# EAGLE library part IR2136 (library okamoto)
IR2136 3-PHASE Motor Driver
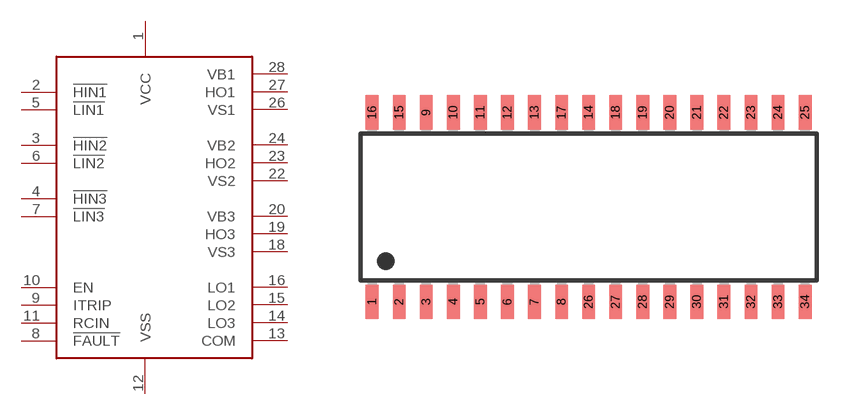
[diagram p3: symbol with the pads of N5; footprint N5]

Designator prefix -

## IR2136  [N5]
1  VCC  pwr
2  !HIN1  in
3  !HIN2  in
4  !HIN3  in
5  !LIN1  in
6  !LIN2  in
7  !LIN3  in
8  !FAULT  out
9  ITRIP  in
10  EN  in
11  RCIN  in
12  VSS  pwr
13  COM  in
14  LO3  out
15  LO2  out
16  LO1  out
18  VS3  out
19  HO3  out
20  VB3  out
22  VS2  out
23  HO2  out
24  VB2  out
26  VS1  out
27  HO1  out
28  VB1  out

## Footprint N5 (pad centres in mm)
SOIC28
smd 0.6 x 1.6: 1 -4.445,-4.445; 2 -3.175,-4.445; 3 -1.905,-4.445; 4 -0.635,-4.445; 5 0.635,-4.445; 6 1.905,-4.445; 7 3.175,-4.445; 8 4.445,-4.445; 9 -1.905,4.445; 10 -0.635,4.445; 11 0.635,4.445; 12 1.905,4.445; 13 3.175,4.445; 14 5.715,4.445; 15 -3.175,4.445; 16 -4.445,4.445; 17 4.445,4.445; 18 6.985,4.445; 19 8.255,4.445; 20 9.525,4.445; 21 10.795,4.445; 22 12.065,4.445; 23 13.335,4.445; 24 14.605,4.445; 25 15.875,4.445; 26 5.715,-4.445; 27 6.985,-4.445; 28 8.255,-4.445; 29 9.525,-4.445; 30 10.795,-4.445; 31 12.065,-4.445; 32 13.335,-4.445; 33 14.605,-4.445; 34 15.875,-4.445